# Altium integrated library Main.IntLib: 25 symbols
Pins are listed as number, name and electrical type; pins without a type are passive.

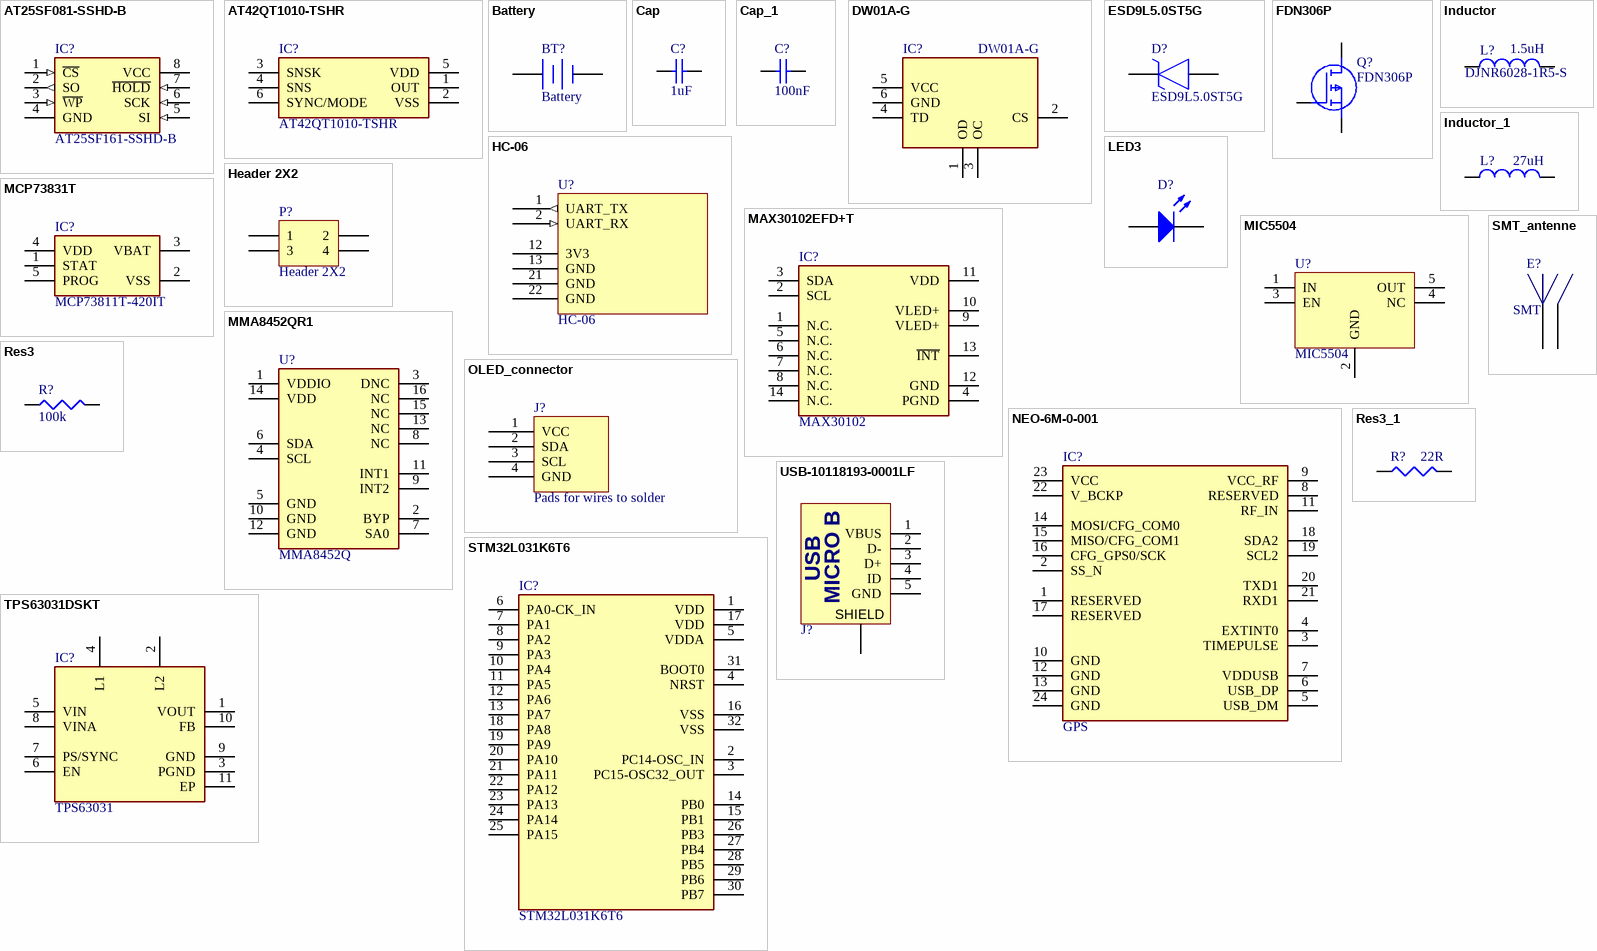
[diagram p0: symbols AT25SF081-SSHD-B to USB-10118193-0001LF]

## AT25SF081-SSHD-B
designator IC?, comment AT25SF161-SSHD-B
flash memory SPI; Manufacturer_Name: Adesto Technologies; Manufacturer_Part_Number: AT25SF081-SSHD-B; Datasheet Link: https://www.mouser.com/datasheet/2/590/DS-AT25SF081_045-1385733.pdf; Height: 1.75mm; Arrow Part Number: AT25SF081-SSHD-B; Arrow Price/Stock: https://www.arrow.com/en/products/at25sf081-sshd-b/adesto-technologies-corporation-inc; Mouser Part Number: 988-AT25SF081-SSHD-B; Mouser Price/Stock: https://www.mouser.com/Search/Refine.aspx?Keyword=988-AT25SF081-SSHD-B
footprint SOIC127P600X175-8N
pins: 1 ~{CS} (in), 2 SO (out), 3 ~{WP} (in), 4 GND (power), 5 SI (in), 6 SCK (in), 7 ~{HOLD} (in), 8 VCC (power)

## AT42QT1010-TSHR
designator IC?
capacitive touch sensor; Manufacturer_Name: Microchip; Datasheet Link: http://www.atmel.com/images/atmel-9541-at42-qtouch-bsw-at42qt1010_datasheet.pdf; Height: 1.45mm; Manufacturer_Part_Number: AT42QT1010-TSHR; Arrow Part Number: AT42QT1010-TSHR; Arrow Price/Stock: https://www.arrow.com/en/products/at42qt1010-tshr/microchip-technology; Mouser Part Number: 556-AT42QT1010-TSHR; Mouser Price/Stock: https://www.mouser.co.uk/ProductDetail/Microchip-Technology/AT42QT1010-TSHR?qs=xbJoyvfFV%2F%252BFK88JVR2efg%3D%3D
footprint SOT95P280X145-6N
pins: 1 OUT, 2 VSS, 3 SNSK, 4 SNS, 5 VDD, 6 SYNC/MODE

## Battery
designator BT?
Multicell Battery; Published: 24-Mar-1999; LatestRevisionDate: 17-Jul-2002; LatestRevisionNote: Re-released for DXP Platform.; PackageReference: BAT-2; Publisher: Altium Limited; PackageDescription: Battery; 2 Leads
footprint BAT_PAD
pins: 1 +, 2 -

## Cap
designator C?  value 1uF  (hidden comment: Cap)
Capacitor; Published: 8-Jun-2000; LatestRevisionDate: 17-Jul-2002; LatestRevisionNote: Re-released for DXP Platform.; PackageReference: RAD-0.3; Publisher: Altium Limited; PackageDescription: Radial Cap, Thru-Hole; 2 Leads; 0.3 in Pin Spacing
footprint cap-0603
simulation model CAP (Capacitor)
signal-integrity model Cap
pins: 1, 2

## Cap_1
designator C?, comment value 100nF  (hidden comment: Cap)
Capacitor; Published: 8-Jun-2000; LatestRevisionDate: 17-Jul-2002; LatestRevisionNote: Re-released for DXP Platform.; PackageReference: RAD-0.3; Publisher: Altium Limited; PackageDescription: Radial Cap, Thru-Hole; 2 Leads; 0.3 in Pin Spacing
footprint C0805
simulation model CAP (Capacitor)
signal-integrity model Cap
pins: 1, 2

## DW01A-G
designator IC?
Integrated Circuit; Manufacturer_Name: Fortune Semiconductor Corporation; Datasheet Link: http://acoptex.com/uploads/DW01A.pdf; Height: 1.35mm; Manufacturer_Part_Number: DW01A-G; Arrow Part Number: DW01A-G
footprint SOT95P280X135-6N
pins: 1 OD, 2 CS, 3 OC, 4 TD, 5 VCC, 6 GND

## ESD9L5.0ST5G
designator D?
Transil; Manufacturer_Name: ON Semiconductor; Datasheet Link: http://www.onsemi.com/pub/Collateral/ESD9L-D.PDF; Height: 0.4mm; Manufacturer_Part_Number: ESD9L5.0ST5G; Arrow Part Number: ESD9L5.0ST5G; Arrow Price/Stock: https://www.arrow.com/en/products/esd9l5.0st5g/on-semiconductor; Mouser Part Number: 863-ESD9L5.0ST5G; Mouser Price/Stock: https://www.mouser.co.uk/ProductDetail/ON-Semiconductor/ESD9L50ST5G?qs=lq5%252BOP7PS0%252BtbEEODUxZiA%3D%3D
footprint SODFL1006X40N
pins: 1 K, 2 A

## FDN306P
designator Q?
MOSFET (P-Channel); Manufacturer_Name: ON Semiconductor; Datasheet Link: http://uk.rs-online.com/web/p/products/1241702; Height: 1.12mm; Manufacturer_Part_Number: FDN306P; Arrow Part Number: FDN306P; Arrow Price/Stock: https://www.arrow.com/en/products/fdn306p/on-semiconductor; Mouser Part Number: 512-FDN306P; Mouser Price/Stock: https://www.mouser.co.uk/ProductDetail/ON-Semiconductor-Fairchild/FDN306P?qs=GeD7q9OHBPy9Kkc110idSQ%3D%3D
footprint SOT95P237X112-3N
pins: 1 G, 2 S, 3 D

## HC-06
designator U?
HC-06 bluetooth module
footprint HC-06_footprint
pins: 1 UART_TX (out), 2 UART_RX (in), 12 3V3, 13 GND, 21 GND, 22 GND

## Header 2X2
designator P?
Header, 2-Pin, Dual row; LatestRevisionDate: 17-Jul-2002; LatestRevisionNote: Re-released for DXP Platform.; Publisher: Altium Limited
footprint 2x2_header
signal-integrity model Connector
pins: 1, 2, 3, 4

## Inductor
designator L?, comment DJNR6028-1R5-S  value 1.5uH
Code_IEC: 1005; Published: 8-Jun-2000; LatestRevisionDate: 29-May-2009; LatestRevisionNote: IPC-7351 Footprint Added.; PackageReference: 0402-A; Publisher: Altium Limited; PackageDescription: Chip Inductor; Code_JEITA: 0402
footprint DJNR6028-1R5-S
footprint INDC1608L (Chip Inductor, Body 1.6x0.8mm, IPC High Density)
footprint 2029 (Chip Inductor, Body 2.0x1.2mm, IPC High Density)
footprint 0603 (Chip Inductor, Body 0.6x0.3mm, IPC High Density)
footprint INDC3216 (Chip Inductor, Body 3.2x1.6mm, IPC High Density)
footprint INDC4532 (Chip Inductor, Body 4.5x3.2mm, IPC High Density)
simulation model INDUCTOR (Inductor)
signal-integrity model Inductor
pins: 1, 2

## Inductor_1
designator L?, comment value 27uH  (hidden comment: Inductor)
Code_IEC: 1005; Published: 8-Jun-2000; LatestRevisionDate: 29-May-2009; LatestRevisionNote: IPC-7351 Footprint Added.; PackageReference: 0402-A; Publisher: Altium Limited; PackageDescription: Chip Inductor; Code_JEITA: 0402
footprint L0805
footprint INDC1608L (Chip Inductor, Body 1.6x0.8mm, IPC High Density)
footprint 2029 (Chip Inductor, Body 2.0x1.2mm, IPC High Density)
footprint 0603 (Chip Inductor, Body 0.6x0.3mm, IPC High Density)
footprint INDC3216 (Chip Inductor, Body 3.2x1.6mm, IPC High Density)
footprint INDC4532 (Chip Inductor, Body 4.5x3.2mm, IPC High Density)
simulation model INDUCTOR (Inductor)
signal-integrity model Inductor
pins: 1, 2

## LED3
designator D?, comment LL-S192PUAC-2A  (value not drawn)
Typical BLUE SiC LED; Published: 8-Jun-2000; LatestRevisionDate: 17-Dec-2003; LatestRevisionNote: PCB Footprint replaced.; DatasheetVersion: 16-Apr-2002; PackageVersion: 16-Apr-2002; PackageReference: 3.5X2.8X1.9; Publisher: Altium Limited; PackageDescription: SM LED; 2 C-Bend Leads; Body 3.5 x 2.8 x 1.9 mm, inc leads (LxWxH typ)
footprint LED_0603
simulation model LED3 (Diode)
signal-integrity model LED
pins: 1 A, 2 K

## MAX30102EFD+T
designator IC?, comment MAX30102
https://datasheets.maximintegrated.com/en/ds/MAX30102.pdf; Manufacturer_Part_Number: MAX30102EFD+T; Datasheet Link: https://datasheets.maximintegrated.com/en/ds/MAX30102.pdf; Height: 1.65mm; Manufacturer_Name: Maxim Integrated; Arrow Part Number: MAX30102EFD+T; Mouser Part Number: 700-MAX30102EFD+T; Mouser Price/Stock: https://www.mouser.co.uk/ProductDetail/Maxim-Integrated/MAX30102EFD%2bT?qs=nVS1qgv%252BQrkHA4%2FoFYriFA%3D%3D
footprint MAX30102EFDT
pins: 1 N.C., 2 SCL, 3 SDA, 4 PGND, 5 N.C., 6 N.C., 7 N.C., 8 N.C., 9 VLED+, 10 VLED+, 11 VDD, 12 GND, 13 ~{INT}, 14 N.C.

## MCP73831T
designator IC?, comment MCP73811T-420IT
Integrated Circuit; Manufacturer_Name: Microchip; Manufacturer_Part_Number: MCP73831T-5ACI/OT; Datasheet Link: http://www.microchip.com/mymicrochip/filehandler.aspx?ddocname=en025112; Height: 1.45mm; Arrow Part Number: MCP73831T-5ACI/OT; Arrow Price/Stock: https://www.arrow.com/en/products/mcp73831t-5aciot/microchip-technology; Mouser Part Number: 579-MCP73831T5ACIOT; Mouser Price/Stock: https://www.mouser.co.uk/ProductDetail/Microchip-Technology/MCP73831T-5ACI-OT?qs=hH%252BOa0VZEiAcgAcEkuamXg%3D%3D
footprint SOT95P280X135-6N
pins: 1 STAT, 2 VSS, 3 VBAT, 4 VDD, 5 PROG

## MIC5504
designator U?
http://ww1.microchip.com/downloads/en/DeviceDoc/21813F.pdf
footprint SOT23-5 (SOT23, 5-Leads, Body 2,90x2,45mm, Pitch 0,95mm, IPC Medium Density)
pins: 1 IN, 2 GND, 3 EN, 4 NC, 5 OUT

## MMA8452QR1
designator U?, comment MMA8452Q
Accelerometer; Manufacturer_Name: NXP; Manufacturer_Part_Number: MMA8452QR1; Datasheet Link: http://www.nxp.com/docs/en/data-sheet/MMA8452Q.pdf; Height: 1mm; Arrow Part Number: MMA8452QR1; Arrow Price/Stock: https://www.arrow.com/en/products/mma8452qr1/nxp-semiconductors; Mouser Part Number: 841-MMA8452QR1; Mouser Price/Stock: https://www.mouser.co.uk/ProductDetail/NXP-Semiconductors/MMA8452QR1?qs=nf24X8JpkflP9lEXYucw7A%3D%3D
footprint QFN-16
pins: 1 VDDIO, 2 BYP, 3 DNC, 4 SCL, 5 GND, 6 SDA, 7 SA0, 8 NC, 9 INT2, 10 GND, 11 INT1, 12 GND, 13 NC, 14 VDD, 15 NC, 16 NC

## NEO-6M-0-001
designator IC?, comment GPS
GPS modle; Manufacturer_Name: U-Blox; Manufacturer_Part_Number: NEO-6M-0-001; Datasheet Link: https://www.u-blox.com/sites/default/files/products/documents/NEO-6_DataSheet_%28GPS.G6-HW-09005%29.pdf; Height: 2.6mm; Arrow Part Number: NEO-6M-0-001
footprint NEO6M0001_only_used_pins
pins: 1 RESERVED, 2 SS_N, 3 TIMEPULSE, 4 EXTINT0, 5 USB_DM, 6 USB_DP, 7 VDDUSB, 8 RESERVED, 9 VCC_RF, 10 GND, 11 RF_IN, 12 GND, 13 GND, 14 MOSI/CFG_COM0, 15 MISO/CFG_COM1, 16 CFG_GPS0/SCK, 17 RESERVED, 18 SDA2, 19 SCL2, 20 TXD1, 21 RXD1, 22 V_BCKP, 23 VCC, 24 GND

## OLED_connector
designator J?, comment Pads for wires to solder
footprint OLED_PAD
pins: 1 VCC, 2 SDA, 3 SCL, 4 GND

## Res3
designator R?  value 100k  (hidden comment: Res3)
Resistor; Published: 8-Jun-2000; LatestRevisionDate: 29-May-2009; LatestRevisionNote: IPC-7351 Footprint Added.; PackageReference: J1-0603; Publisher: Altium Limited; PackageDescription: Chip Resistor
footprint R0603
simulation model RESISTOR (Resistor)
signal-integrity model Res
pins: 1, 2

## Res3_1
designator R?  value 22R
Resistor; Published: 8-Jun-2000; LatestRevisionDate: 29-May-2009; LatestRevisionNote: IPC-7351 Footprint Added.; PackageReference: J1-0603; Publisher: Altium Limited; PackageDescription: Chip Resistor
footprint R0603
footprint R0603
simulation model RESISTOR (Resistor)
signal-integrity model Res
pins: 1, 2

## SMT_antenne
designator E?, comment SMT
footprint UFLRSMT160
pins: 1 SIG, 2 GND

## STM32L031K6T6
designator IC?
Integrated Circuit; Manufacturer_Name: STMicroelectronics; Datasheet Link: https://www.st.com/resource/en/datasheet/stm32l031k6.pdf; Height: 1.6mm; Manufacturer_Part_Number: STM32L031K6T6; Arrow Part Number: STM32L031K6T6; Arrow Price/Stock: https://www.arrow.com/en/products/stm32l031k6t6/stmicroelectronics; Mouser Part Number: 511-STM32L031K6T6; Mouser Price/Stock: https://www.mouser.co.uk/ProductDetail/STMicroelectronics/STM32L031K6T6?qs=mwoc%252BQmZlGIAMyWzQ3GanA%3D%3D
footprint QFP80P900X900X160-32N
pins: 1 VDD, 2 PC14-OSC_IN, 3 PC15-OSC32_OUT, 4 NRST, 5 VDDA, 6 PA0-CK_IN, 7 PA1, 8 PA2, 9 PA3, 10 PA4, 11 PA5, 12 PA6, 13 PA7, 14 PB0, 15 PB1, 16 VSS, 17 VDD, 18 PA8, 19 PA9, 20 PA10, 21 PA11, 22 PA12, 23 PA13, 24 PA14, 25 PA15, 26 PB3, 27 PB4, 28 PB5, 29 PB6, 30 PB7, 31 BOOT0, 32 VSS

## TPS63031DSKT
designator IC?, comment TPS63031
TPS63031 buck-boost 3v3; Manufacturer_Name: Texas Instruments; Manufacturer_Part_Number: TPS63031DSKT; Datasheet Link: http://www.ti.com/lit/gpn/tps63031; Height: 0.8mm; Arrow Part Number: TPS63031DSKT; Arrow Price/Stock: https://www.arrow.com/en/products/tps63031dskt/texas-instruments; Mouser Part Number: 595-TPS63031DSKT; Mouser Price/Stock: https://www.mouser.co.uk/ProductDetail/Texas-Instruments/TPS63031DSKT?qs=ptj1V1atRArBpxn4nGxMNw%3D%3D
footprint SON50P250X250X80-11N-D
pins: 1 VOUT, 2 L2, 3 PGND, 4 L1, 5 VIN, 6 EN, 7 PS/SYNC, 8 VINA, 9 GND, 10 FB, 11 EP

## USB-10118193-0001LF
designator J?, comment Micro USB  (value not drawn)
model 10118193-0001LF amphenol; Datasheet Link: https://componentsearchengine.com/Datasheets/1/10118193-0001LF.pdf; Height: 3.1mm; Manufacturer_Name: Amphenol; Manufacturer_Part_Number: 10118193-0001LF; Arrow Part Number: 10118193-0001LF; Arrow Price/Stock: https://www.arrow.com/en/products/10118193-0001lf/amphenol-fci; Mouser Part Number: 649-10118193-0001LF; Mouser Price/Stock: https://www.mouser.co.uk/ProductDetail/Amphenol-FCI/10118193-0001LF?qs=Ywefl8B65e63Nsqd%252B8HZaQ%3D%3D
footprint 101181930001LF (microUSB footprint)
pins: 1 VBUS "+5 VDC", 2 D- "Data -", 3 D+ "Data +", 4 ID "Ground", 5 GND "Ground", 6 SHIELD "Shield"
text: USB; MICRO B